# Altium schematic symbol library Wedka_Schlib.SchLib: 17 symbols
Pins are listed as number, name and electrical type; pins without a type are passive.

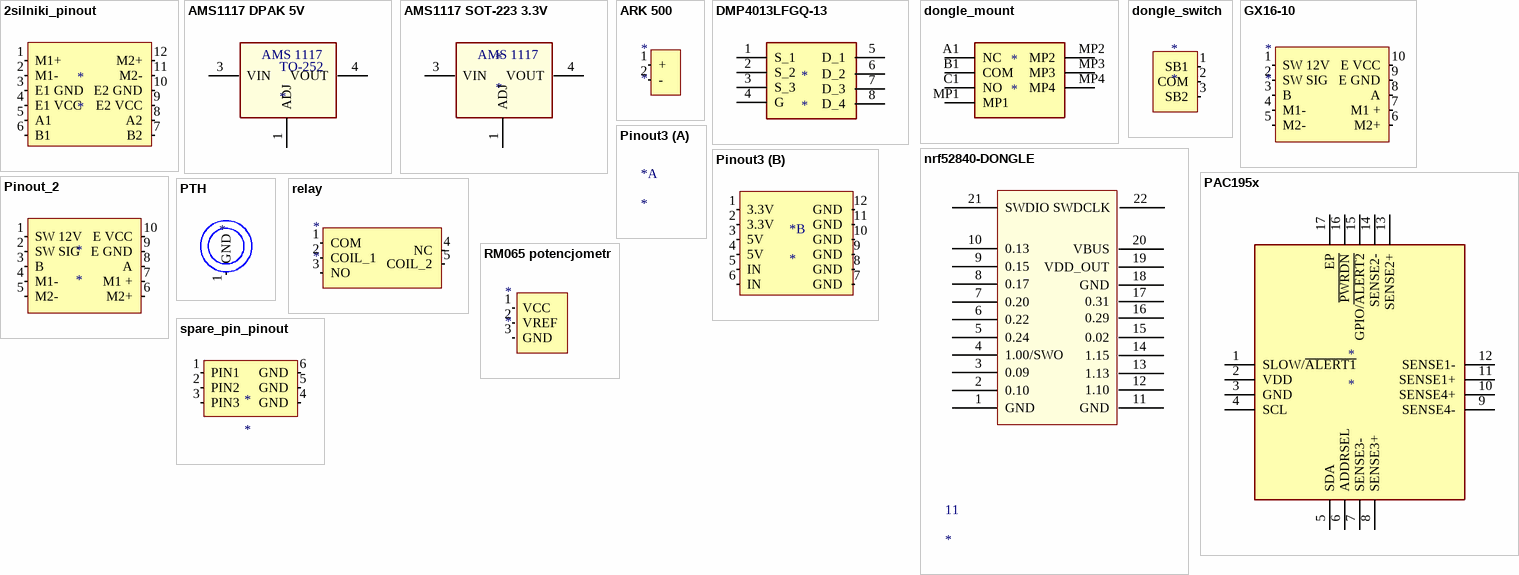
[diagram p0: symbols 2silniki_pinout to spare_pin_pinout]

## 2silniki_pinout
designator *
footprint 2_silniki_pinout
pins: 1 M1+ (in), 2 M1- (in), 3 E1 GND (in), 4 E1 VCC (in), 5 A1 (in), 6 B1 (in), 7 B2 (in), 8 A2 (in), 9 E2 VCC (in), 10 E2 GND (in), 11 M2- (in), 12 M2+ (in)

## AMS1117 DPAK 5V
designator TO-252
footprint AMS1117CD (D-PAK, 3-Pads, Body 6,21x6,74mm (max), IPC Medium Density)
pins: 1 ADJ, 3 VIN, 4 VOUT
text: AMS 1117

## AMS1117 SOT-223 3.3V
designator *
footprint AMS1117 3.3 (SOT-223)
pins: 1 ADJ, 3 VIN, 4 VOUT
text: AMS 1117

## ARK 500
designator *
footprint AK 500 (2pin raster 5mm)
pins: 1 + (power), 2 - (power)

## DMP4013LFGQ-13
designator *
footprint DMP4013LFGQ-13 (MOSFET P-Channel)
pins: 1 S_1, 2 S_2, 3 S_3, 4 G, 5 D_1, 6 D_2, 7 D_3, 8 D_4

## dongle_mount
designator *
footprint dongle_mount
pins: A1 NC, B1 COM, C1 NO, MP1, MP2, MP3, MP4

## dongle_switch
designator *
footprint switch_dongle
pins: 1 SB1 (in), 2 COM (in), 3 SB2 (in)

## GX16-10
designator *
footprint GX16-10 (złącze szczelne)
pins: 1 SW 12V (in), 2 SW SIG (in), 3 B (in), 4 M1- (in), 5 M2- (in), 6 M2+ (in), 7 M1 + (in), 8 A (in), 9 E GND (in), 10 E VCC (in)

## nrf52840-DONGLE
designator 11
footprint nrf52840
pins: 1 GND, 2 0.10, 3 0.09, 4 1.00/SWO, 5 0.24, 6 0.22, 7 0.20, 8 0.17, 9 0.15, 10 0.13, 11 GND, 12 1.10, 13 1.13, 14 1.15, 15 0.02, 16 0.29, 17 0.31, 18 GND, 19 VDD_OUT, 20 VBUS, 21 SWDIO, 22 SWDCLK

## PAC195x
designator *
footprint PAC19X
pins: 1 SLOW/~{ALERT1}, 2 VDD, 3 GND, 4 SCL, 5 SDA, 6 ADDRSEL, 7 SENSE3-, 8 SENSE3+, 9 SENSE4-, 10 SENSE4+, 11 SENSE1+, 12 SENSE1-, 13 SENSE2+, 14 SENSE2-, 15 GPIO/~{ALERT2}, 16 ~{PWRDN}, 17 EP

## Pinout3
designator *
footprint pinout3
part B pins: 1 3.3V (in), 2 3.3V (in), 3 5V (in), 4 5V (in), 5 IN (in), 6 IN (in), 7 GND (in), 8 GND (in), 9 GND (in), 10 GND (in), 11 GND (in), 12 GND (in)

## Pinout_2
designator *
footprint Pinout_2
pins: 1 SW 12V (in), 2 SW SIG (in), 3 B (in), 4 M1- (in), 5 M2- (in), 6 M2+ (in), 7 M1 + (in), 8 A (in), 9 E GND (in), 10 E VCC (in)

## PTH
designator *
footprint PTH (Otwór montażowy)
pins: 1 GND

## relay
designator *
footprint SRA RELAY
pins: 1 COM (in), 2 COIL_1 (in), 3 NO (in), 4 NC (in), 5 COIL_2 (in)

## RM065 potencjometr
designator *
footprint Potenciometer (10k THT)
pins: 1 VCC (in), 2 VREF (out), 3 GND (in)

## spare_pin_pinout
designator *
footprint spare_pinout
pins: 1 PIN1 (out), 2 PIN2 (out), 3 PIN3 (out), 4 GND (in), 5 GND (in), 6 GND (in)

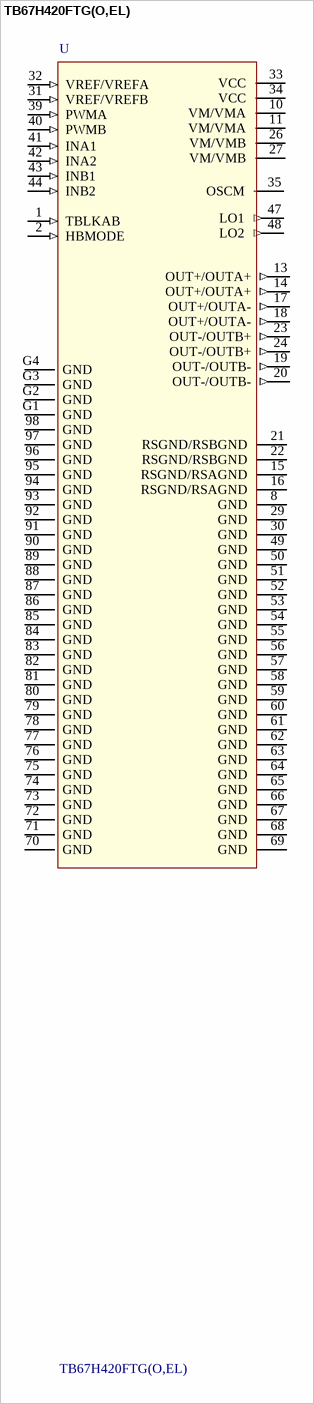
[diagram p1: symbol TB67H420FTG(O,EL)]

## TB67H420FTG(O,EL)
designator U
Bipolar Motor Driver CMOS PWM 48-QFN _7x7_; MP: TB67H420FTG_O,EL_; MF: Toshiba; SnapEDA_Link: https://www.snapeda.com/parts/TB67H420FTG%28O%2CEL%29/avi/view-part/4448976/?ref=snap; Availability: Unavailable; Value: *; Price: None; Package: None
footprint IC_TB67H420FTG(O,EL)
footprint Toshiba
pins: 1 TBLKAB (in), 2 HBMODE (in), 8 GND (power), 10 VM/VMA (power), 11 VM/VMA (power), 13 OUT+/OUTA+ (out), 14 OUT+/OUTA+ (out), 15 RSGND/RSAGND (power), 16 RSGND/RSAGND (power), 17 OUT+/OUTA- (out), 18 OUT+/OUTA- (out), 19 OUT-/OUTB- (out), 20 OUT-/OUTB- (out), 21 RSGND/RSBGND (power), 22 RSGND/RSBGND (power), 23 OUT-/OUTB+ (out), 24 OUT-/OUTB+ (out), 26 VM/VMB (power), 27 VM/VMB (power), 29 GND (power), 30 GND (power), 31 VREF/VREFB (in), 32 VREF/VREFA (in), 33 VCC (power), 34 VCC (power), 35 OSCM, 39 PWMA (in), 40 PWMB (in), 41 INA1 (in), 42 INA2 (in), 43 INB1 (in), 44 INB2 (in), 47 LO1 (out), 48 LO2 (out), 49 GND (power), 50 GND (power), 51 GND (power), 52 GND (power), 53 GND (power), 54 GND (power), 55 GND (power), 56 GND (power), 57 GND (power), 58 GND (power), 59 GND (power), 60 GND (power), 61 GND (power), 62 GND (power), 63 GND (power), 64 GND (power), 65 GND (power), 66 GND (power), 67 GND (power), 68 GND (power), 69 GND (power), 70 GND (power), 71 GND (power), 72 GND (power), 73 GND (power), 74 GND (power), 75 GND (power), 76 GND (power), 77 GND (power), 78 GND (power), 79 GND (power), 80 GND (power), 81 GND (power), 82 GND (power), 83 GND (power), 84 GND (power), 85 GND (power), 86 GND (power), 87 GND (power), 88 GND (power), 89 GND (power), 90 GND (power), 91 GND (power), 92 GND (power), 93 GND (power), 94 GND (power), 95 GND (power), 96 GND (power), 97 GND (power), 98 GND (power), G1 GND (power), G2 GND (power), G3 GND (power), G4 GND (power)